# EAGLE library part 22-23-2061 (library robotter_connector)
.100" (2.54mm) Center Header - 6 Pin
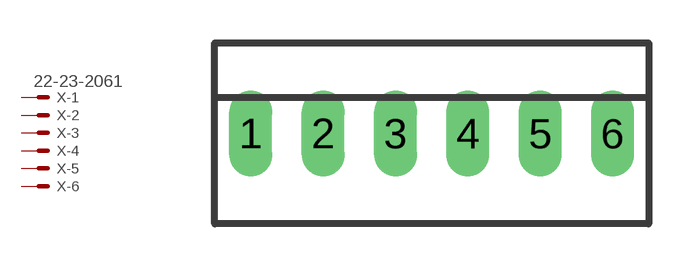
[diagram p16: symbol with the pads of 22-23-2061; footprint 22-23-2061]

Designator prefix X; gates -1=MV-1 -2=M-1 -3=M-1 -4=M-1 -5=M-1 -6=M-1

## 22-23-2061 (FARNELL: 1462922; MF: MOLEX; MOUSER: 538-22-23-2061; MPN: 22-23-2061; RS: 679-5593)  [22-23-2061]
1  -1:S  pas
2  -2:S  pas
3  -3:S  pas
4  -4:S  pas
5  -5:S  pas
6  -6:S  pas

## Footprint 22-23-2061 (pad centres in mm)
.100" (2.54mm) Center Header - 6 Pin
drill 1 long: 1 -6.35,0; 2 -3.81,0; 3 -1.27,0; 4 1.27,0; 5 3.81,0; 6 6.35,0